# Altium footprint library components.PcbLib: 15 footprints
Each footprint in its own frame and in the unit in brackets; x right, y up, seen from the top. Pads: shape width x height; smd on the part's side, far side on the other; paste and mask are expansions set on the pad; w line width, h text height; cw(c..) or ccw(c..) is an arc to the next point about the centre after c.
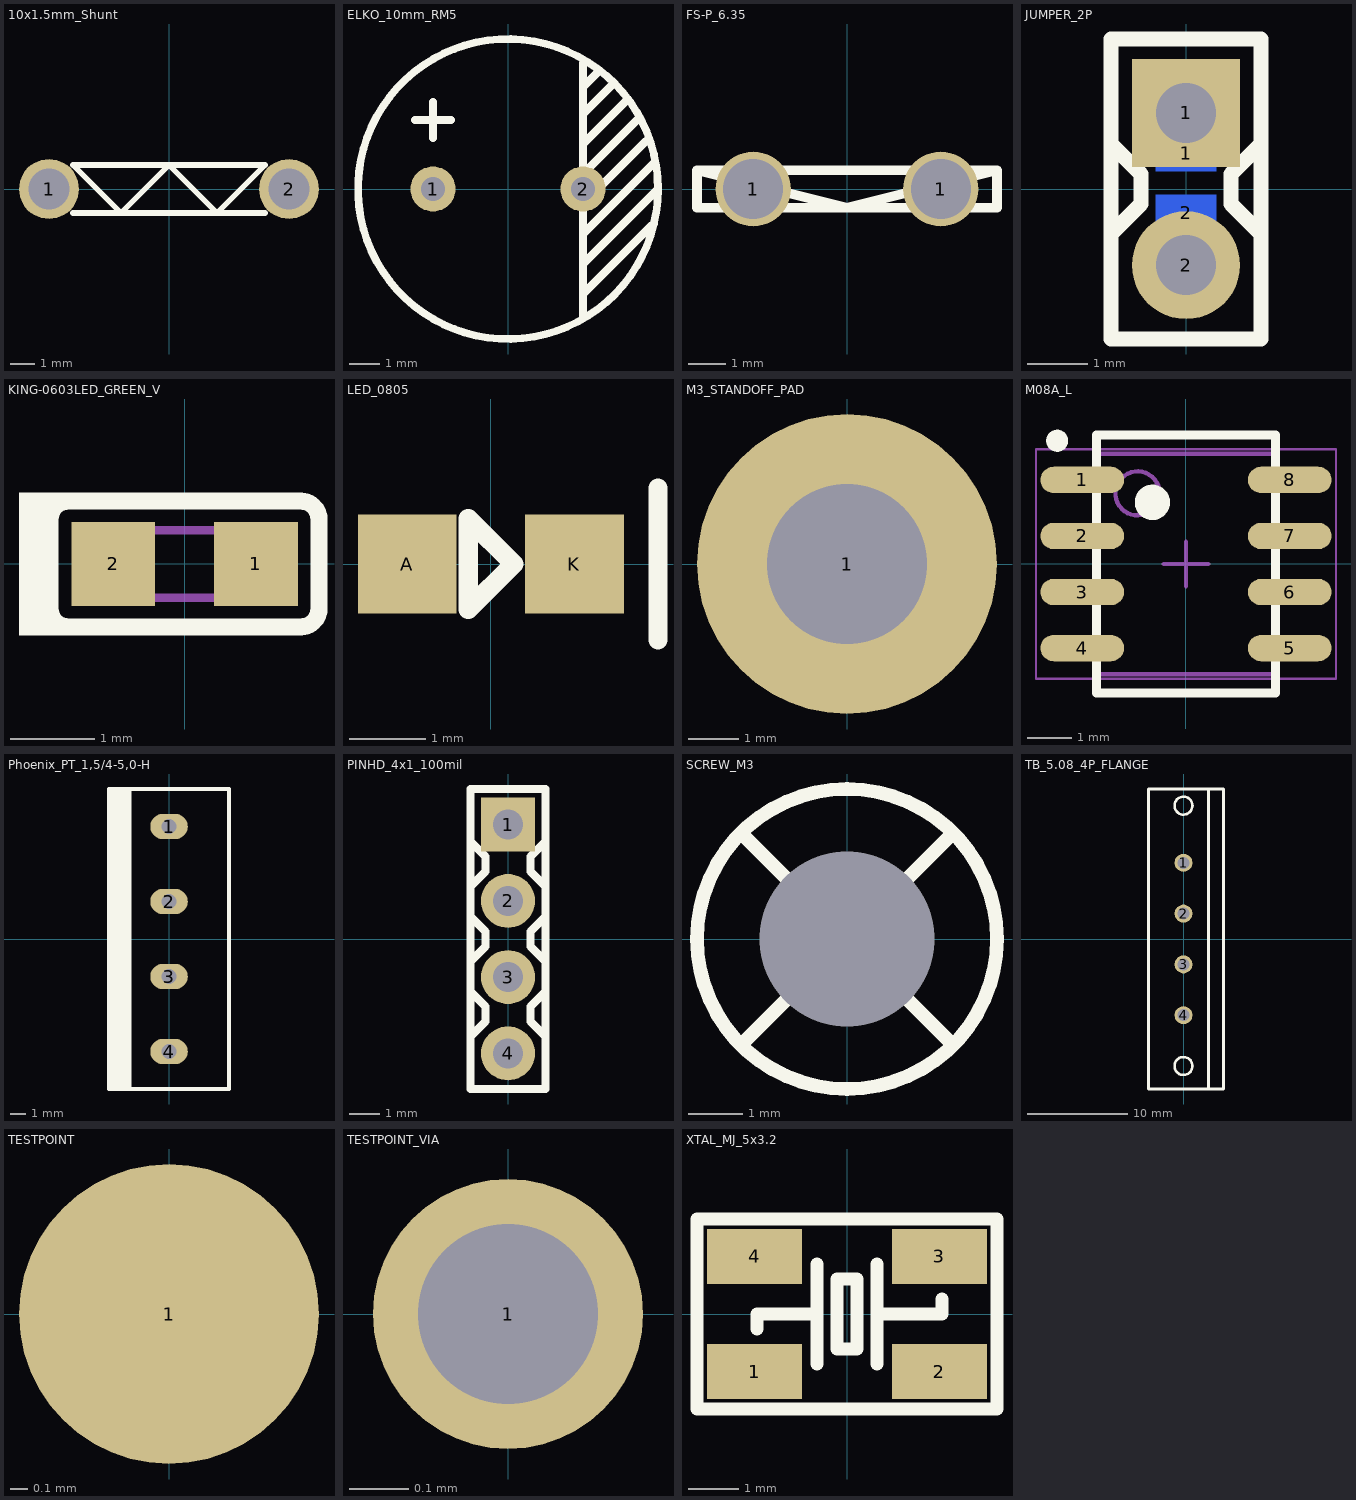
[diagram p0: the footprints below, top view; thin cyan lines are the x and y axes]

## 10x1.5mm_Shunt [mm]
pads (2):
  round 2.5 hole 1.7: 1(-5,0) 2(5,0)
Top Overlay:
  lines w0.254: -4,-1 4,-1 ; -4,1 4,1 2,-1 0,1 -2,-1 -4,1

## ELKO_10mm_RM5 [mm]
pads (2):
  round 1.5 hole 0.8: 1(-2.5,0) 2(2.5,0)
Top Overlay:
  circle w0.254: c0,0 r5
  lines w0.254: -3.1,2.3 -1.9,2.3 ; -2.5,1.7 -2.5,2.9 ; 2.5,-4.3 2.5,4.2 ; 2.5,-3.5 4.8,-1.2 ; 2.5,-2.5 5,0 ; 2.5,-1.5 4.9,0.9 ; 2.5,-0.5 4.6,1.6 ; 2.5,0.5 4.3,2.3 ; 2.5,1.5 4,3 ; 2.5,2.5 3.5,3.5 ; 2.5,3.4 3,3.9

## FS-P_6.35 [mm]
pads (2):
  round 2 hole 1.6: 1(-2.5,0) 1(2.5,0)
Top Overlay:
  lines w0.254: -4,0.5 -4,-0.5 4,-0.5 4,0.5 ; -4,0.5 4,0.5 ; -4,0.5 0,-0.5 4,0.5

## JUMPER_2P [mm]
pads (4):
  rect 1x0.6 smd far side: 1(0,0.6) 2(0,-0.4)
  rect 1.8x1.8 hole 1: 1(0,1.27)
  round 1.8 hole 1: 2(0,-1.27)
Top Overlay:
  lines w0.254: -1.25,-0.75 -0.75,-0.25 -0.75,0.25 -1.25,0.75 ; 1.25,-0.75 0.75,-0.25 0.75,0.25 1.25,0.75 ; -1.25,-2.5 -1.25,2.5 1.25,2.5 1.25,-2.5 -1.25,-2.5
Bottom Solder:
  rectangle: -0.6,0 0.6,0.2

## KING-0603LED_GREEN_V [mm] "SMT LED, 2-Leads, Body 1.6x0.8mm (0603-Size)"
pads (2):
  rect 1x1 smd paste+0 mask+0: 1(0.85,0) 2(-0.85,0)
Top Overlay:
  rectangle: -1.782,0.665 -1.132,0.851
  rectangle: -1.973,-0.851 -1.516,0.851
  rectangle: -1.782,-0.851 -1.198,-0.686
  lines w0.203: -1.602,-0.533 ccw(c-1.386,-0.533) -1.386,-0.749 1.386,-0.749 ccw(c1.386,-0.533) 1.602,-0.533 1.602,0.533 ccw(c1.386,0.533) 1.386,0.749 -1.386,0.749 ccw(c-1.386,0.533) -1.602,0.533 -1.602,-0.533
Mechanical 7:
  lines w0.1: -0.8,-0.4 -0.8,0.4 0.8,0.4 0.8,-0.4 -0.8,-0.4
  text ".Comment" at -1.6,-0.9 h0.4
  text ".Designator" at -1.6,0.6 h0.4
3D body: height 1, standoff 0, extent -0.301,-0.464 0.493,0.402
3D body: height 1.1, standoff 0, extent -0.502,-0.533 0.668,0.533
3D body: height 0.5, standoff 0, extent -0.925,-0.535 -0.5,0.535
3D body: height 0.5, standoff 0, extent 0.664,-0.532 1.089,0.532

## LED_0805 [mm]
pads (2):
  rect 1.3x1.3 smd: A(-1.1,0) K(1.1,0)
Top Overlay:
  lines w0.254: 2.2,-1 2.2,1 ; -0.3,-0.6 -0.3,0.6 0.3,0 -0.3,-0.6

## M3_STANDOFF_PAD [mm] "Mounting hole for electrically conducting M3 standoff"
pads (1):
  round 6 hole 3.2: 1(0,0)

## M08A_L [mm] "SOIC, 8-Leads, Body 4.9x3.9mm, Pitch 1.27mm, IPC High Density"
height 1.75
pads (8):
  oval 1.9x0.6 smd: 1(-2.35,1.905) 2(-2.35,0.635) 3(-2.35,-0.635) 4(-2.35,-1.905) 5(2.35,-1.905) 6(2.35,-0.635) 7(2.35,0.635) 8(2.35,1.905)
Top Overlay:
  circle w0.25: c-2.921,2.794 r0.125
  circle w0.4: c-0.762,1.397 r0.2
  lines w0.2: -2.032,-2.921 -2.032,2.921 2.032,2.921 2.032,-2.921 -2.032,-2.921
Mechanical 13:
  circle w0.1: c-1.1,1.6 r0.5
  lines w0.1: -2,-2.5 -2,2.5 2,2.5 2,-2.5 -2,-2.5
Mechanical 15:
  lines w0.05: -3.4,-2.6 -3.4,2.6 3.4,2.6 3.4,-2.6 -3.4,-2.6
  lines w0.1: -0.5,0 0.5,0 ; 0,-0.5 0,0.5
3D body: height 1.75, standoff 0.1, extent -2,-2.5 2,2.5

## Phoenix_PT_1,5/4-5,0-H [mm]
pads (4):
  oval 2.5x1.7 hole 1: 1(0,7.5) 2(0,2.5) 3(0,-2.5) 4(0,-7.5)
Top Overlay:
  rectangle: -4,-10 -2.5,10
  lines w0.254: -4,-10 4,-10 4,10 -4,10 -4,-10

## PINHD_4x1_100mil [mm]
pads (4):
  rect 1.8x1.8 hole 1: 1(0,3.81)
  round 1.8 hole 1: 2(0,1.27) 3(0,-1.27) 4(0,-3.81)
Top Overlay:
  lines w0.254: -1.25,-3.25 -0.75,-2.75 -0.75,-2.25 -1.25,-1.75 ; -1.25,-0.75 -0.75,-0.25 -0.75,0.25 -1.25,0.75 ; -1.25,1.75 -0.75,2.25 -0.75,2.75 -1.25,3.25 ; 1.25,-3.25 0.75,-2.75 0.75,-2.25 1.25,-1.75 ; 1.25,-0.75 0.75,-0.25 0.75,0.25 1.25,0.75 ; 1.25,1.75 0.75,2.25 0.75,2.75 1.25,3.25 ; -1.25,-5 1.25,-5 1.25,5 -1.25,5 -1.25,-5

## SCREW_M3 [mm]
pads (1):
  round 0 hole 3.2 unplated: 1(0,0)
Top Overlay:
  circle w0.254: c0,0 r2.75
  lines w0.254: -1.9,-1.9 1.9,1.9 ; -1.9,1.9 1.9,-1.9

## TB_5.08_4P_FLANGE [mm] "Pluggable Terminal Block, vertical, pitch 5.08mm, with flange"
pads (4):
  round 1.8 hole 1.2: 1(0,7.62) 2(0,2.54) 3(0,-2.54) 4(0,-7.62)
Top Overlay:
  circle w0.254: c0,13.335 r0.898
  circle w0.254: c0,-12.7 r0.898
  lines w0.254: 2.5,-15 2.5,15 ; -3.5,-15 -3.5,-0.5 -3.5,0 -3.5,15 4,15 4,-15 -3.5,-15

## TESTPOINT [mm]
pads (1):
  round 1.7 smd: 1(0,0)

## TESTPOINT_VIA [mil]
pads (1):
  round 18 / inner round 66.93 / far side round 66.93 hole 12: 1(0,0)

## XTAL_MJ_5x3.2 [mm]
pads (4):
  rect 1.9x1.1 smd: 1(-1.85,-1.15) 2(1.85,-1.15) 3(1.85,1.15) 4(-1.85,1.15)
Top Overlay:
  lines w0.254: -1.8,-0.3 -1.8,0 -0.6,0 ; -0.6,-1 -0.6,1 ; 0.6,-1 0.6,1 ; 0.6,0 1.9,0 1.9,0.3 ; -3,-1.9 -3,1.9 3,1.9 3,-1.9 -3,-1.9 ; -0.2,-0.7 -0.2,0.7 0.2,0.7 0.2,-0.7 -0.2,-0.7